# Altium footprint library PCB.PCBLIB: 320 footprints (part 10 of 20)
Each footprint in its own frame and in the unit in brackets; x right, y up, seen from the top. Pads: shape width x height; smd on the part's side, far side on the other; paste and mask are expansions set on the pad; w line width, h text height; cw(c..) or ccw(c..) is an arc to the next point about the centre after c.
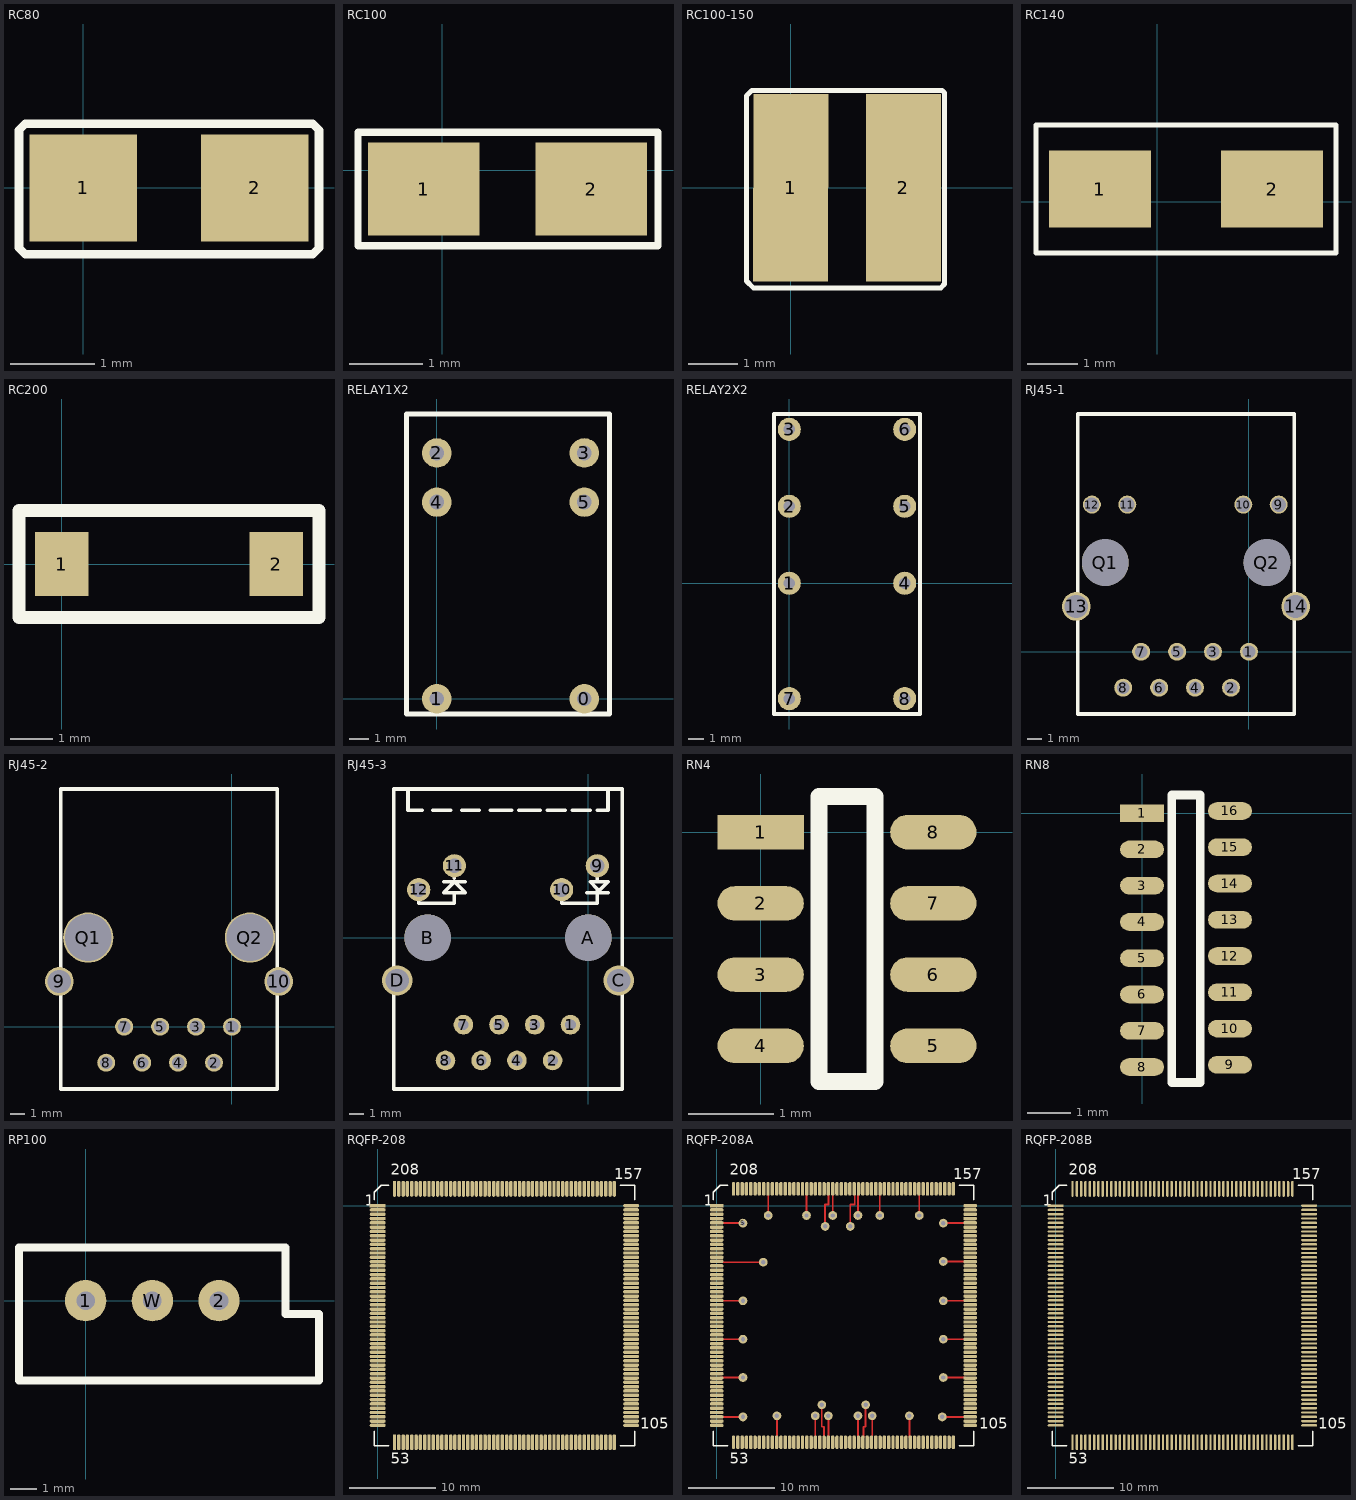
[diagram p9: the footprints below, top view; thin cyan lines are the x and y axes]

## RC80 [mil]
pads (2):
  rect 50x50 smd: 1(0,0) 2(80,0)
TopOverlay:
  lines w4: -30,-28 -30,27 -27,30 107,30 110,27 110,-28 107,-31 -27,-31 -30,-28

## RC100 [mil]
pads (2):
  rect 60x50 smd: 1(-10,-10) 2(80,-10)
TopOverlay:
  lines w4: -45.43,-40.51 115.98,-40.51 115.98,20.51 -45.43,20.51 -45.43,-40.51

## RC100-150 [mil]
pads (2):
  rect 60x150 smd: 1(0,0) 2(90,0)
TopOverlay:
  lines w2.36: -35.43,-30.51 -35.43,30.51
  lines w4: -35.43,-34 -35.43,73.57 -31,78 121,78 123,76 123,-77 120,-80 -30,-80 -35.43,-74.57 -35.43,-30.51

## RC140 [mil]
pads (2):
  rect 80x60 smd: 1(-45,10) 2(90,10)
TopOverlay:
  lines w4: -95,-40 -20,-40 65,-40 140,-40 140,60 65,60 -20,60 -95,60 -95,-40

## RC200 [mil]
pads (2):
  rect 50x60 smd: 1(0,0) 2(200,0)
TopOverlay:
  lines w12: -40,-50 240,-50 240,50 -40,50 -40,-50

## RELAY1X2 [mil]
pads (6):
  round 60 hole 30: 0(300,0) 1(0,0) 2(0,500) 3(300,500) 4(0,400) 5(300,400)
TopOverlay:
  lines w10: -62,-31 351.39,-31 351.39,579.24 -62,579.24 -62,-31

## RELAY2X2 [mil]
pads (8):
  round 60 hole 30: 1(0,0) 2(0,200) 3(0,400) 4(300,0) 5(300,200) 6(300,400) 7(0,-300) 8(300,-300)
TopOverlay:
  lines w10: -40,-340 -40,440 340,440 340,-340 -40,-340

## RJ45-1 [mil]
pads (16):
  round 50 hole 35: 1(0,0) 2(-50,-100) 3(-100,0) 4(-150,-100) 5(-200,0) 6(-250,-100) 7(-300,0) 8(-350,-100)
  round 50 hole 40: 9(82.68,409.45) 10(-15.75,409.45) 11(-338.58,409.45) 12(-437.01,409.45)
  round 80 hole 65: 13(-480.31,125.98)
  round 80 hole 64: 14(129.92,125.98)
  round 130 hole 130: Q1(-400,248.03) Q2(50,248.03)
TopOverlay:
  lines w10: -476.38,-173.23 125.98,-173.23 125.98,661.42 -476.38,661.42 -476.38,-173.23

## RJ45-2 [mil]
pads (12):
  round 50 hole 35: 1(0,0) 2(-50,-100) 3(-100,0) 4(-150,-100) 5(-200,0) 6(-250,-100) 7(-300,0) 8(-350,-100)
  round 80 hole 65: 9(-480.31,125.98)
  round 80 hole 64: 10(129.92,125.98)
  round 140 hole 130: Q1(-400,248.03) Q2(50,248.03)
TopOverlay:
  lines w10: -476.38,-173.23 125.98,-173.23 125.98,661.42 -476.38,661.42 -476.38,-173.23

## RJ45-3 [mil]
pads (16):
  round 55 hole 30: 1(-50,-244) 2(-100,-344) 3(-150,-244) 4(-200,-344) 5(-250,-244) 6(-300,-344) 7(-350,-244) 8(-400,-344)
  round 65 hole 40: 9(25,201) 10(-75,134) 11(-375,201) 12(-475,134)
  round 130 hole 130: A(0,0) B(-450,0)
  round 85 hole 65: C(85,-120) D(-535,-120)
TopOverlay:
  lines w10: -505,416 -505,356 -465,356 ; -475,116 -475,96 -375,96 -375,126 ; -435,356 -385,356 ; -405,156 -345,156 ; -375,166 -375,176 ; -355,356 -305,356 ; -275,356 -215,356 ; -195,356 -135,356 ; -115,356 -65,356 ; -75,106 -75,96 25,96 25,126 ; -45,356 5,356 ; -5,126 55,126 ; 25,156 25,176 ; 25,356 55,356 55,416 ; 25,126 25,136 5,156 55,156 25,126 ; -545,-424 -545,416 95,416 95,-424 -225,-424 -545,-424 ; -405,126 -375,156 -345,126 -405,126

## RN4 [mil]
pads (8):
  rect 40x16 smd: 1(0,0)
  oval 40x16 smd: 2(0,-33) 3(0,-66) 4(0,-99) 5(80,-99) 6(80,-66) 7(80,-33) 8(80,0)
TopOverlay:
  lines w8: 27,-115.5 27,16.5 53,16.5 53,-115.5 27,-115.5

## RN8 [mil]
pads (16):
  rect 40x16 smd: 1(0,0)
  oval 40x16 smd: 2(0,-33) 3(0,-66) 4(0,-99) 5(0,-132) 6(0,-165) 7(0,-198) 8(0,-231) 9(80,-229) 10(80,-196) 11(80,-163) 12(80,-130) 13(80,-97) 14(80,-64) 15(80,-31) 16(80,2)
TopOverlay:
  lines w8: 27,-245 53,-245 53,16.5 27,16.5 27,-245

## RP100 [mil]
pads (3):
  round 62 hole 28: 1(0,0) 2(200,0) W(100,0)
TopOverlay:
  lines w12: -100,-120 350,-120 350,-20 300,-20 300,80 -100,80 -100,-120

## RQFP-208 [mm]
pads (208):
  rect 1.854x0.4 smd: 1(0,0)
  oval 1.854x0.4 smd: 2(0,-0.5) 3(0,-1) 4(0,-1.5) 5(0,-2) 6(0,-2.5) 7(0,-3) 8(0,-3.5) 9(0,-4) 10(0,-4.5) 11(0,-5) 12(0,-5.5) 13(0,-6) 14(0,-6.5) 15(0,-7) 16(0,-7.5) 17(0,-8) 18(0,-8.5) 19(0,-9) 20(0,-9.5) 21(0,-10) 22(0,-10.5) 23(0,-11) 24(0,-11.5) 25(0,-12) 26(0,-12.5) 27(0,-13) 28(0,-13.5) 29(0,-14) 30(0,-14.5) 31(0,-15) 32(0,-15.5) 33(0,-16) 34(0,-16.5) 35(0,-17) 36(0,-17.5) 37(0,-18) 38(0,-18.5) 39(0,-19) 40(0,-19.5) 41(0,-20) 42(0,-20.5) 43(0,-21) 44(0,-21.5) 45(0,-22) 46(0,-22.5) 47(0,-23) 48(0,-23.5) 49(0,-24) 50(0,-24.5) 51(0,-25) 52(0,-25.5) 105(29.4,-25.5) 106(29.4,-25) 107(29.4,-24.5) 108(29.4,-24) 109(29.4,-23.5) 110(29.4,-23) 111(29.4,-22.5) 112(29.4,-22) 113(29.4,-21.5) 114(29.4,-21) 115(29.4,-20.5) 116(29.4,-20) 117(29.4,-19.5) 118(29.4,-19) 119(29.4,-18.5) 120(29.4,-18) 121(29.4,-17.5) 122(29.4,-17) 123(29.4,-16.5) 124(29.4,-16) 125(29.4,-15.5) 126(29.4,-15) 127(29.4,-14.5) 128(29.4,-14) 129(29.4,-13.5) 130(29.4,-13) 131(29.4,-12.5) 132(29.4,-12) 133(29.4,-11.5) 134(29.4,-11) 135(29.4,-10.5) 136(29.4,-10) 137(29.4,-9.5) 138(29.4,-9) 139(29.4,-8.5) 140(29.4,-8) 141(29.4,-7.5) 142(29.4,-7) 143(29.4,-6.5) 144(29.4,-6) 145(29.4,-5.5) 146(29.4,-5) 147(29.4,-4.5) 148(29.4,-4) 149(29.4,-3.5) 150(29.4,-3) 151(29.4,-2.5) 152(29.4,-2) 153(29.4,-1.5) 154(29.4,-1) 155(29.4,-0.5) 156(29.4,0)
  oval 0.4x1.854 smd: 53(1.95,-27.45) 54(2.45,-27.45) 55(2.95,-27.45) 56(3.45,-27.45) 57(3.95,-27.45) 58(4.45,-27.45) 59(4.95,-27.45) 60(5.45,-27.45) 61(5.95,-27.45) 62(6.45,-27.45) 63(6.95,-27.45) 64(7.45,-27.45) 65(7.95,-27.45) 66(8.45,-27.45) 67(8.95,-27.45) 68(9.45,-27.45) 69(9.95,-27.45) 70(10.45,-27.45) 71(10.95,-27.45) 72(11.45,-27.45) 73(11.95,-27.45) 74(12.45,-27.45) 75(12.95,-27.45) 76(13.45,-27.45) 77(13.95,-27.45) 78(14.45,-27.45) 79(14.95,-27.45) 80(15.45,-27.45) 81(15.95,-27.45) 82(16.45,-27.45) 83(16.95,-27.45) 84(17.45,-27.45) 85(17.95,-27.45) 86(18.45,-27.45) 87(18.95,-27.45) 88(19.45,-27.45) 89(19.95,-27.45) 90(20.45,-27.45) 91(20.95,-27.45) 92(21.45,-27.45) 93(21.95,-27.45) 94(22.45,-27.45) 95(22.95,-27.45) 96(23.45,-27.45) 97(23.95,-27.45) 98(24.45,-27.45) 99(24.95,-27.45) 100(25.45,-27.45) 101(25.95,-27.45) 102(26.45,-27.45) 103(26.95,-27.45) 104(27.45,-27.45) 157(27.45,1.95) 158(26.95,1.95) 159(26.45,1.95) 160(25.95,1.95) 161(25.45,1.95) 162(24.95,1.95) 163(24.45,1.95) 164(23.95,1.95) 165(23.45,1.95) 166(22.95,1.95) 167(22.45,1.95) 168(21.95,1.95) 169(21.45,1.95) 170(20.95,1.95) 171(20.45,1.95) 172(19.95,1.95) 173(19.45,1.95) 174(18.95,1.95) 175(18.45,1.95) 176(17.95,1.95) 177(17.45,1.95) 178(16.95,1.95) 179(16.45,1.95) 180(15.95,1.95) 181(15.45,1.95) 182(14.95,1.95) 183(14.45,1.95) 184(13.95,1.95) 185(13.45,1.95) 186(12.95,1.95) 187(12.45,1.95) 188(11.95,1.95) 189(11.45,1.95) 190(10.95,1.95) 191(10.45,1.95) 192(9.95,1.95) 193(9.45,1.95) 194(8.95,1.95) 195(8.45,1.95) 196(7.95,1.95) 197(7.45,1.95) 198(6.95,1.95) 199(6.45,1.95) 200(5.95,1.95) 201(5.45,1.95) 202(4.95,1.95) 203(4.45,1.95) 204(3.95,1.95) 205(3.45,1.95) 206(2.95,1.95) 207(2.45,1.95) 208(1.95,1.95)
TopOverlay:
  lines w0.2: -0.4,-26.2 -0.4,-27.85 1.25,-27.85 ; -0.4,0.7 -0.4,1.55 0.4,2.35 1.25,2.35 ; 28.15,-27.85 29.8,-27.85 29.8,-26.2 ; 28.15,2.35 29.8,2.35 29.8,0.7
  text "208" at 1.524,3.556 h1.27
  text "157" at 27.432,3.048 h1.27
  text "105" at 30.48,-25.908 h1.27
  text "53" at 1.524,-29.972 h1.27
  text "1" at -1.524,0 h1.27

## RQFP-208A [mm]
pads (236):
  rect 1.6x0.4 smd: 1(0,0)
  oval 1.6x0.4 smd: 2(0,-0.5) 3(0,-1) 4(0,-1.5) 5(0,-2) 6(0,-2.5) 7(0,-3) 8(0,-3.5) 9(0,-4) 10(0,-4.5) 11(0,-5) 12(0,-5.5) 13(0,-6) 14(-0.008,-6.454) 15(0,-7) 16(0,-7.5) 17(0,-8) 18(0,-8.5) 19(0,-9) 20(0,-9.5) 21(0,-10) 22(0,-10.5) 23(0,-11) 24(0,-11.5) 25(0,-12) 26(0,-12.5) 27(0,-13) 28(0,-13.5) 29(0,-14) 30(0,-14.5) 31(0,-15) 32(0,-15.5) 33(0,-16) 34(0,-16.5) 35(0,-17) 36(0,-17.5) 37(0,-18) 38(0,-18.5) 39(0,-19) 40(0,-19.5) 41(0,-20) 42(0,-20.5) 43(0,-21) 44(0,-21.5) 45(0,-22) 46(0,-22.5) 47(0,-23) 48(0,-23.5) 49(0,-24) 50(0,-24.5) 51(0,-25) 52(0,-25.5) 105(29.4,-25.5) 106(29.4,-25) 107(29.4,-24.5) 108(29.4,-24) 109(29.4,-23.5) 110(29.4,-23) 111(29.4,-22.5) 112(29.4,-22) 113(29.4,-21.5) 114(29.4,-21) 115(29.4,-20.5) 116(29.4,-20) 117(29.4,-19.5) 118(29.4,-19) 119(29.4,-18.5) 120(29.4,-18) 121(29.4,-17.5) 122(29.4,-17) 123(29.4,-16.5) 124(29.4,-16) 125(29.4,-15.5) 126(29.4,-15) 127(29.4,-14.5) 128(29.4,-14) 129(29.4,-13.5) 130(29.4,-13) 131(29.4,-12.5) 132(29.4,-12) 133(29.4,-11.5) 134(29.4,-11) 135(29.4,-10.5) 136(29.4,-10) 137(29.4,-9.5) 138(29.4,-9) 139(29.4,-8.5) 140(29.4,-8) 141(29.4,-7.5) 142(29.4,-7) 143(29.4,-6.5) 144(29.4,-6) 145(29.4,-5.5) 146(29.4,-5) 147(29.4,-4.5) 148(29.4,-4) 149(29.4,-3.5) 150(29.4,-3) 151(29.4,-2.5) 152(29.4,-2) 153(29.4,-1.5) 154(29.4,-1) 155(29.4,-0.5) 156(29.4,0)
  round 1.016 hole 0.508: 5(3.048,-2.032) 14(5.4,-6.558) 23(3.048,-11.049) 32(3.048,-15.494) 41(3.048,-19.939) 50(3.048,-24.511) 63(6.985,-24.384) 72(11.43,-24.384) 74(12.192,-23.114) 75(12.954,-24.384) 82(16.383,-24.384) 83(17.272,-23.114) 85(18.034,-24.384) 94(22.352,-24.384) 107(26.162,-24.511) 116(26.289,-19.939) 125(26.289,-15.494) 134(26.289,-11.049) 143(26.289,-6.477) 152(26.289,-2.032) 165(23.495,-1.143) 174(18.923,-1.143) 179(16.383,-1.143) 180(15.494,-2.413) 185(13.462,-1.143) 186(12.573,-2.413) 191(10.414,-1.143) 200(5.969,-1.143)
  oval 0.4x1.6 smd: 53(1.95,-27.45) 54(2.45,-27.45) 55(2.95,-27.45) 56(3.45,-27.45) 57(3.95,-27.45) 58(4.45,-27.45) 59(4.95,-27.45) 60(5.45,-27.45) 61(5.95,-27.45) 62(6.45,-27.45) 63(6.95,-27.45) 64(7.45,-27.45) 65(7.95,-27.45) 66(8.45,-27.45) 67(8.95,-27.45) 68(9.45,-27.45) 69(9.95,-27.45) 70(10.45,-27.45) 71(10.95,-27.45) 72(11.45,-27.45) 73(11.95,-27.45) 74(12.45,-27.45) 75(12.95,-27.45) 76(13.45,-27.45) 77(13.95,-27.45) 78(14.45,-27.45) 79(14.95,-27.45) 80(15.45,-27.45) 81(15.95,-27.45) 82(16.45,-27.45) 83(16.95,-27.45) 84(17.45,-27.45) 85(17.95,-27.45) 86(18.45,-27.45) 87(18.95,-27.45) 88(19.45,-27.45) 89(19.95,-27.45) 90(20.45,-27.45) 91(20.95,-27.45) 92(21.45,-27.45) 93(21.95,-27.45) 94(22.45,-27.45) 95(22.95,-27.45) 96(23.45,-27.45) 97(23.95,-27.45) 98(24.45,-27.45) 99(24.95,-27.45) 100(25.45,-27.45) 101(25.95,-27.45) 102(26.45,-27.45) 103(26.95,-27.45) 104(27.45,-27.45) 157(27.45,1.95) 158(26.95,1.95) 159(26.45,1.95) 160(25.95,1.95) 161(25.45,1.95) 162(24.95,1.95) 163(24.45,1.95) 164(23.95,1.95) 165(23.45,1.95) 166(22.95,1.95) 167(22.45,1.95) 168(21.95,1.95) 169(21.45,1.95) 170(20.95,1.95) 171(20.45,1.95) 172(19.95,1.95) 173(19.45,1.95) 174(18.95,1.95) 175(18.45,1.95) 176(17.95,1.95) 177(17.45,1.95) 178(16.95,1.95) 179(16.45,1.95) 180(15.95,1.95) 181(15.45,1.95) 182(14.95,1.95) 183(14.45,1.95) 184(13.95,1.95) 185(13.45,1.95) 186(12.95,1.95) 187(12.45,1.95) 188(11.95,1.95) 189(11.45,1.95) 190(10.95,1.95) 191(10.45,1.95) 192(9.95,1.95) 193(9.45,1.95) 194(8.95,1.95) 195(8.45,1.95) 196(7.95,1.95) 197(7.45,1.95) 198(6.95,1.95) 199(6.45,1.95) 200(5.95,1.95) 201(5.45,1.95) 202(4.95,1.95) 203(4.45,1.95) 204(3.95,1.95) 205(3.45,1.95) 206(2.95,1.95) 207(2.45,1.95) 208(1.95,1.95)
TopLayer:
  lines w0.203: 0.5,-6.558 5.4,-6.558 ; 0.508,-24.511 3.048,-24.511 ; 0.508,-19.939 3.048,-19.939 ; 0.508,-15.494 3.048,-15.494 ; 0.508,-11.049 3.048,-11.049 ; 0.508,-2.032 3.048,-2.032 ; 5.969,-1.143 5.969,1.397 ; 6.985,-26.924 6.985,-24.384 ; 10.414,-1.143 10.414,1.397 ; 11.43,-26.924 11.43,-24.384 ; 12.192,-23.114 12.192,-25.654 12.446,-25.654 12.446,-26.924 ; 12.573,-2.413 12.573,0.127 12.954,0.127 12.954,1.397 ; 12.954,-26.924 12.954,-24.384 ; 13.462,-1.143 13.462,1.397 ; 15.494,-2.413 15.494,0.127 16.002,0.127 16.002,1.27 ; 16.383,-26.924 16.383,-24.384 ; 16.383,-1.143 16.383,1.397 ; 17.018,-26.924 17.018,-25.654 17.272,-25.654 17.272,-23.114 ; 18.034,-26.924 18.034,-24.384 ; 18.923,-1.143 18.923,1.397 ; 22.352,-26.924 22.352,-24.384 ; 23.495,-1.143 23.495,1.397 ; 26.162,-24.511 28.702,-24.511 ; 26.289,-19.939 28.829,-19.939 ; 26.289,-15.494 28.829,-15.494 ; 26.289,-11.049 28.829,-11.049 ; 26.289,-6.477 28.829,-6.477 ; 26.289,-2.032 28.829,-2.032
TopOverlay:
  lines w0.2: -0.4,-26.2 -0.4,-27.85 1.25,-27.85 ; -0.4,0.7 -0.4,1.55 0.4,2.35 1.25,2.35 ; 28.15,-27.85 29.8,-27.85 29.8,-26.2 ; 28.15,2.35 29.8,2.35 29.8,0.7
  text "1" at -1.524,0 h1.27
  text "53" at 1.524,-29.972 h1.27
  text "105" at 30.48,-25.908 h1.27
  text "157" at 27.432,3.048 h1.27
  text "208" at 1.524,3.556 h1.27

## RQFP-208B [mil]
pads (208):
  rect 73x11 smd: 1(0,0)
  oval 73x11 smd: 2(0,-19.68) 3(0,-39.37) 4(0,-59.05) 5(0,-78.74) 6(0,-98.42) 7(0,-118.11) 8(0,-137.79) 9(0,-157.48) 10(0,-177.16) 11(0,-196.85) 12(0,-216.53) 13(0,-236.22) 14(0,-255.91) 15(0,-275.59) 16(0,-295.27) 17(0,-314.96) 18(0,-334.64) 19(0,-354.33) 20(0,-374.01) 21(0,-393.7) 22(0,-413.38) 23(0,-433.07) 24(0,-452.75) 25(0,-472.44) 26(0,-492.12) 27(0,-511.81) 28(0,-531.5) 29(0,-551.18) 30(0,-570.87) 31(0,-590.55) 32(0,-610.24) 33(0,-629.92) 34(0,-649.61) 35(0,-669.29) 36(0,-688.98) 37(0,-708.66) 38(0,-728.35) 39(0,-748.03) 40(0,-767.72) 41(0,-787.4) 42(0,-807.09) 43(0,-826.77) 44(0,-846.46) 45(0,-866.14) 46(0,-885.83) 47(0,-905.51) 48(0,-925.2) 49(0,-944.88) 50(0,-964.57) 51(0,-984.25) 52(0,-1003.93) 105(1157.48,-1003.93) 106(1157.48,-984.25) 107(1157.48,-964.57) 108(1157.48,-944.88) 109(1157.48,-925.2) 110(1157.48,-905.51) 111(1157.48,-885.83) 112(1157.48,-866.14) 113(1157.48,-846.46) 114(1157.48,-826.77) 115(1157.48,-807.09) 116(1157.48,-787.4) 117(1157.48,-767.72) 118(1157.48,-748.03) 119(1157.48,-728.35) 120(1157.48,-708.66) 121(1157.48,-688.98) 122(1157.48,-669.29) 123(1157.48,-649.61) 124(1157.48,-629.92) 125(1157.48,-610.24) 126(1157.48,-590.55) 127(1157.48,-570.87) 128(1157.48,-551.18) 129(1157.48,-531.5) 130(1157.48,-511.81) 131(1157.48,-492.12) 132(1157.48,-472.44) 133(1157.48,-452.75) 134(1157.48,-433.07) 135(1157.48,-413.38) 136(1157.48,-393.7) 137(1157.48,-374.01) 138(1157.48,-354.33) 139(1157.48,-334.64) 140(1157.48,-314.96) 141(1157.48,-295.27) 142(1157.48,-275.59) 143(1157.48,-255.91) 144(1157.48,-236.22) 145(1157.48,-216.53) 146(1157.48,-196.85) 147(1157.48,-177.16) 148(1157.48,-157.48) 149(1157.48,-137.79) 150(1157.48,-118.11) 151(1157.48,-98.42) 152(1157.48,-78.74) 153(1157.48,-59.05) 154(1157.48,-39.37) 155(1157.48,-19.68) 156(1157.48,0)
  oval 11x73 smd: 53(76.77,-1080.71) 54(96.46,-1080.71) 55(116.14,-1080.71) 56(135.83,-1080.71) 57(155.51,-1080.71) 58(175.2,-1080.71) 59(194.88,-1080.71) 60(214.57,-1080.71) 61(234.25,-1080.71) 62(253.94,-1080.71) 63(273.62,-1080.71) 64(293.31,-1080.71) 65(312.99,-1080.71) 66(332.68,-1080.71) 67(352.36,-1080.71) 68(372.05,-1080.71) 69(391.73,-1080.71) 70(411.42,-1080.71) 71(431.1,-1080.71) 72(450.79,-1080.71) 73(470.47,-1080.71) 74(490.16,-1080.71) 75(509.84,-1080.71) 76(529.53,-1080.71) 77(549.21,-1080.71) 78(568.9,-1080.71) 79(588.58,-1080.71) 80(608.27,-1080.71) 81(627.95,-1080.71) 82(647.64,-1080.71) 83(667.32,-1080.71) 84(687.01,-1080.71) 85(706.69,-1080.71) 86(726.38,-1080.71) 87(746.06,-1080.71) 88(765.75,-1080.71) 89(785.43,-1080.71) 90(805.12,-1080.71) 91(824.8,-1080.71) 92(844.49,-1080.71) 93(864.17,-1080.71) 94(883.86,-1080.71) 95(903.54,-1080.71) 96(923.23,-1080.71) 97(942.91,-1080.71) 98(962.6,-1080.71) 99(982.28,-1080.71) 100(1001.97,-1080.71) 101(1021.65,-1080.71) 102(1041.34,-1080.71) 103(1061.02,-1080.71) 104(1080.71,-1080.71) 157(1080.71,76.77) 158(1061.02,76.77) 159(1041.34,76.77) 160(1021.65,76.77) 161(1001.97,76.77) 162(982.28,76.77) 163(962.6,76.77) 164(942.91,76.77) 165(923.23,76.77) 166(903.54,76.77) 167(883.86,76.77) 168(864.17,76.77) 169(844.49,76.77) 170(824.8,76.77) 171(805.12,76.77) 172(785.43,76.77) 173(765.75,76.77) 174(746.06,76.77) 175(726.38,76.77) 176(706.69,76.77) 177(687.01,76.77) 178(667.32,76.77) 179(647.64,76.77) 180(627.95,76.77) 181(608.27,76.77) 182(588.58,76.77) 183(568.9,76.77) 184(549.21,76.77) 185(529.53,76.77) 186(509.84,76.77) 187(490.16,76.77) 188(470.47,76.77) 189(450.79,76.77) 190(431.1,76.77) 191(411.42,76.77) 192(391.73,76.77) 193(372.05,76.77) 194(352.36,76.77) 195(332.68,76.77) 196(312.99,76.77) 197(293.31,76.77) 198(273.62,76.77) 199(253.94,76.77) 200(234.25,76.77) 201(214.57,76.77) 202(194.88,76.77) 203(175.2,76.77) 204(155.51,76.77) 205(135.83,76.77) 206(116.14,76.77) 207(96.46,76.77) 208(76.77,76.77)
TopOverlay:
  lines w7.87: -15.75,-1031.49 -15.75,-1096.45 49.21,-1096.45 ; -15.75,27.56 -15.75,61.02 15.75,92.52 49.21,92.52 ; 1108.27,-1096.45 1173.23,-1096.45 1173.23,-1031.49 ; 1108.27,92.52 1173.23,92.52 1173.23,27.56
  text "1" at -60,0 h50
  text "53" at 60,-1180 h50
  text "105" at 1200,-1020 h50
  text "157" at 1080,120 h50
  text "208" at 60,140 h50